# Altium footprint library BLDC_driver.PcbLib: 23 footprints (part 1 of 2)
Each footprint in its own frame and in the unit in brackets; x right, y up, seen from the top. Pads: shape width x height; smd on the part's side, far side on the other; paste and mask are expansions set on the pad; w line width, h text height; cw(c..) or ccw(c..) is an arc to the next point about the centre after c.
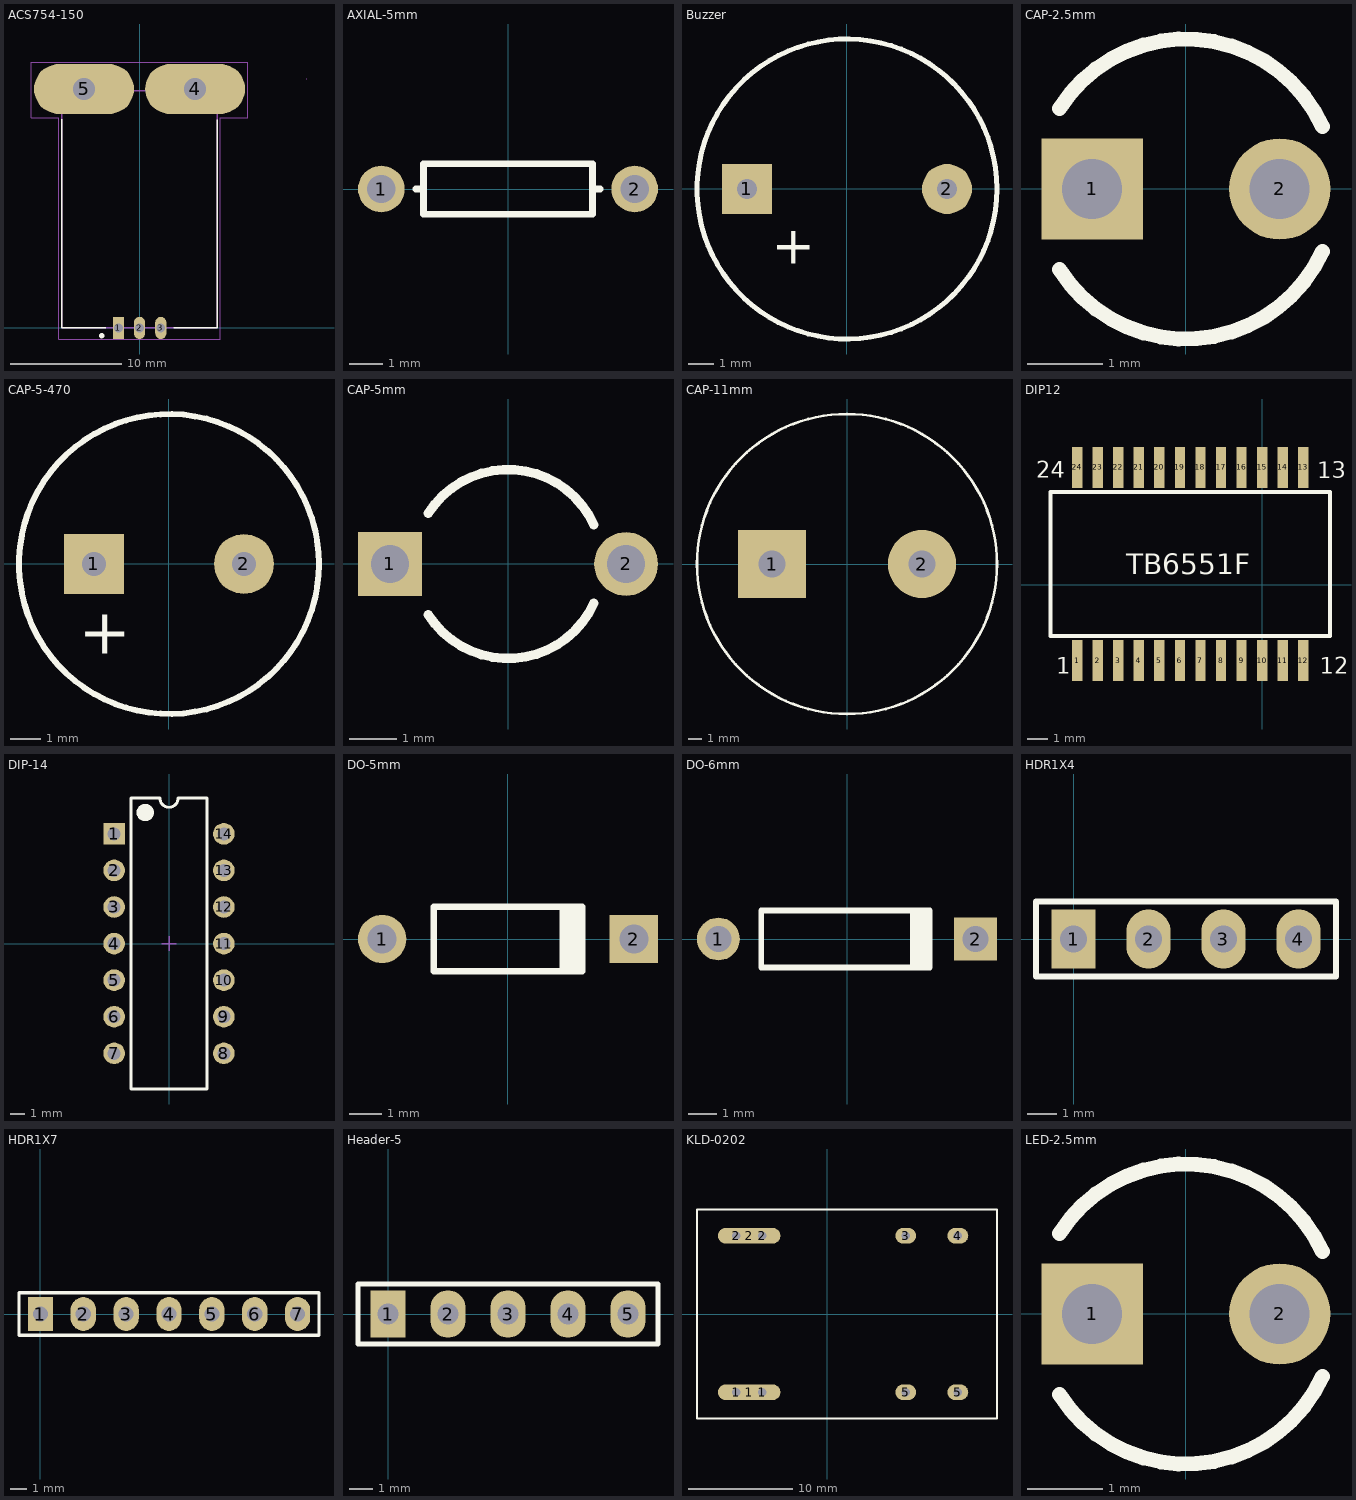
[diagram p0: the footprints below, top view; thin cyan lines are the x and y axes]

## ACS754-150 [mm]
height 5.08
pads (5):
  rect 1x2 hole 0.8: 1(-1.91,0)
  oval 1x2 hole 0.8: 2(0,0) 3(1.91,0)
  oval 9x4.5 hole 2: 4(5,21.5) 5(-5,21.5)
Top Overlay:
  circle w0.24: c-3.4,-0.7 r0.12
  lines w0.127: -7,18.76 -7,0 -3.06,0 ; 3.06,0 7,0 7,18.74
Mechanical 1:
  lines w0: -5,22.4 -4.95,22.4 ; 5,22.4 5.05,22.4 ; 15,22.4 15.05,22.4 ; -7,20.4 cw(c-7,21.4) -7,22.4 -3,22.4 cw(c-3,21.4) -3,20.4 -7,20.4 ; 3,20.4 cw(c3,21.4) 3,22.4 7,22.4 cw(c7,21.4) 7,20.4 3,20.4
Mechanical 13:
  lines w0.127: -7,0 -7,21.341 7,21.341 7,0 -7,0
Mechanical 15:
  lines w0.05: -9.75,18.9 -7.25,18.9 -7.25,-1 7.25,-1 7.25,18.9 9.75,18.9 9.75,23.9 -9.75,23.9 -9.75,18.9

## AXIAL-5mm [mm] "Axial Device, Thru-Hole; 2 Leads; 0.3 in Pin Spacing"
height 1.524
pads (2):
  round 1.4 hole 0.85: 1(-3.81,0) 2(3.81,0)
Top Overlay:
  lines w0.2: -2.769,0 -2.54,0 ; 2.769,0 2.54,0 ; 2.54,0 2.54,0.762 -2.54,0.762 -2.54,-0.762 2.54,-0.762 2.54,0

## Buzzer [mm] "Buzzer 12mm"
height 12
pads (2):
  rect 2x2 hole 0.8: 1(-4,0)
  round 2 hole 0.8: 2(4,0)
Top Overlay:
  circle w0.2: c0,0 r6
  text "+" at -3,-3 h1.52

## CAP-2.5mm [mm] "Capacitor; 2 Leads"
height 12
pads (2):
  rect 1.35x1.35 hole 0.8: 1(-1.25,0)
  round 1.35 hole 0.8: 2(1.25,0)
Top Overlay:
  lines w0.2: -1.687,-1.075 ccw(c0,0) 1.819,-0.832 ; -1.687,1.075 cw(c0,0) 1.819,0.832

## CAP-5-470 [mm] "Capacitor; 2 Leads"
height 12
pads (2):
  rect 2x2 hole 0.8: 1(-2.5,0)
  round 2 hole 0.8: 2(2.5,0)
Top Overlay:
  circle w0.2: c0,0 r5
  text "+" at -3,-3 h1.52

## CAP-5mm [mm] "Capacitor; 2 Leads"
height 12
pads (2):
  rect 1.35x1.35 hole 0.8: 1(-2.5,0)
  round 1.35 hole 0.8: 2(2.5,0)
Top Overlay:
  lines w0.2: -1.687,-1.075 ccw(c0,0) 1.819,-0.832 ; -1.687,1.075 cw(c0,0) 1.819,0.832

## CAP-11mm [mm] "Capacitor; 2 Leads"
height 12
pads (2):
  rect 5x5 hole 2: 1(-5.5,0)
  round 5 hole 2: 2(5.5,0)
Top Overlay:
  circle w0.2: c0,0 r11

## DIP12 [mm] "DIP Switch; 16 Leads"
height 5.06
pads (24):
  rect 0.5x2 smd: 1(-9,-3.7) 2(-8,-3.7) 3(-7,-3.7) 4(-6,-3.7) 5(-5,-3.7) 6(-4,-3.7) 7(-3,-3.7) 8(-2,-3.7) 9(-1,-3.7) 10(0,-3.7) 11(1,-3.7) 12(2,-3.7) 13(2,5.7) 14(1,5.7) 15(0,5.7) 16(-1,5.7) 17(-2,5.7) 18(-3,5.7) 19(-4,5.7) 20(-5,5.7) 21(-6,5.7) 22(-7,5.7) 23(-8,5.7) 24(-9,5.7)
Top Overlay:
  lines w0.2: 3.29,-2.5 -10.29,-2.5 -10.29,4.5 3.3,4.5 3.3,-2.5
  text "TB6551F" at -6.6,0.5 h1
  text "1" at -10.006,-4.332 h0.8
  text "24" at -11,5.2 h0.8
  text "12" at 2.794,-4.332 h0.8
  text "13" at 2.694,5.168 h0.8

## DIP-14 [mm] "DIP; 14 Leads; Row Spacing 7.62 mm; Pitch 2.54 mm"
height 5.08
pads (14):
  rect 1.5x1.5 hole 0.9: 1(-3.81,7.62)
  round 1.5 hole 0.9: 2(-3.81,5.08) 3(-3.81,2.54) 4(-3.81,0) 5(-3.81,-2.54) 6(-3.81,-5.08) 7(-3.81,-7.62) 8(3.81,-7.62) 9(3.81,-5.08) 10(3.81,-2.54) 11(3.81,0) 12(3.81,2.54) 13(3.81,5.08) 14(3.81,7.62)
Top Overlay:
  circle w0.6: c-1.65,9.1 r0.3
  lines w0.2: -2.65,-10.1 2.65,-10.1 2.65,10.1 0.635,10.1 cw(c0,10.1) -0.635,10.1 -2.65,10.1 -2.65,-10.1
Mechanical 15:
  lines w0.1: -0.5,0 0.5,0 ; 0,-0.5 0,0.5

## DO-5mm [mm] "Diode, Axial; Body 4.6 x 1.9 mm (LxDia. max), Lead Dia. 0.53 mm (max)"
height 2
pads (2):
  round 1.5 hole 0.9: 1(-3.9,0)
  rect 1.5x1.5 hole 0.9: 2(3.9,0)
Top Overlay:
  rectangle: 1.6,-1 2.4,1
  lines w0.2: 2.3,-1 -2.3,-1 -2.3,1 2.3,1

## DO-6mm [mm] "Diode, Axial; Body 4.6 x 1.9 mm (LxDia. max), Lead Dia. 0.53 mm (max)"
height 2
pads (2):
  round 1.5 hole 0.9: 1(-4.5,0)
  rect 1.5x1.5 hole 0.9: 2(4.5,0)
Top Overlay:
  rectangle: 2.2,-1 3,1
  lines w0.2: 2.9,-1 -3,-1 -3,1 2.9,1

## HDR1X4 [mm] "Connector; Header; 4 Position"
height 6.86
pads (4):
  rect 1.5x2 hole 0.9: 1(0,0)
  oval 1.5x2 hole 0.9: 2(2.54,0) 3(5.08,0) 4(7.62,0)
Top Overlay:
  lines w0.2: -1.27,-1.27 -1.27,1.27 8.89,1.27 8.89,-1.27 -1.27,-1.27

## HDR1X7 [mm] "Connector; Header; 7 Position"
height 6.86
pads (7):
  rect 1.5x2 hole 0.9: 1(0,0)
  oval 1.5x2 hole 0.9: 2(2.54,0) 3(5.08,0) 4(7.62,0) 5(10.16,0) 6(12.7,0) 7(15.24,0)
Top Overlay:
  lines w0.2: -1.27,-1.27 -1.27,1.27 16.51,1.27 16.51,-1.27 -1.27,-1.27

## Header-5 [mm] "Connector; Header; 5 Position"
height 4.01
pads (5):
  rect 1.5x2 hole 0.9: 1(0,0)
  oval 1.5x2 hole 0.9: 2(2.54,0) 3(5.08,0) 4(7.62,0) 5(10.16,0)
Top Overlay:
  lines w0.2: -1.27,-1.27 -1.27,1.27 11.43,1.27 11.43,-1.27 -1.27,-1.27

## KLD-0202 [mm] "DC Power Jack, 2.5mm, KLD Series, PCB Mount"
height 5.08
pads (10):
  oval 2x1.5 hole 0.8: 1(-8.75,-7.5) 1(-6.25,-7.5) 2(-8.75,7.5) 2(-6.25,7.5) 3(7.5,7.5) 4(12.5,7.5) 5(7.5,-7.5) 5(12.5,-7.5)
  oval 6x1.5 all layers, no hole: 1(-7.5,-7.5) 2(-7.5,7.5)
Top Overlay:
  lines w0.2: -12.5,-10 -12.5,10 16.25,10 16.25,-10 -12.5,-10

## LED-2.5mm [mm] "Capacitor; 2 Leads"
height 12
pads (2):
  rect 1.35x1.35 hole 0.8: 1(-1.25,0)
  round 1.35 hole 0.8: 2(1.25,0)
Top Overlay:
  lines w0.2: -1.687,-1.075 ccw(c0,0) 1.819,-0.832 ; -1.687,1.075 cw(c0,0) 1.819,0.832